# Altium schematic symbol library LogicBoard_SchLib.SchLib: 13 symbols
Pins are listed as number, name and electrical type; pins without a type are passive.

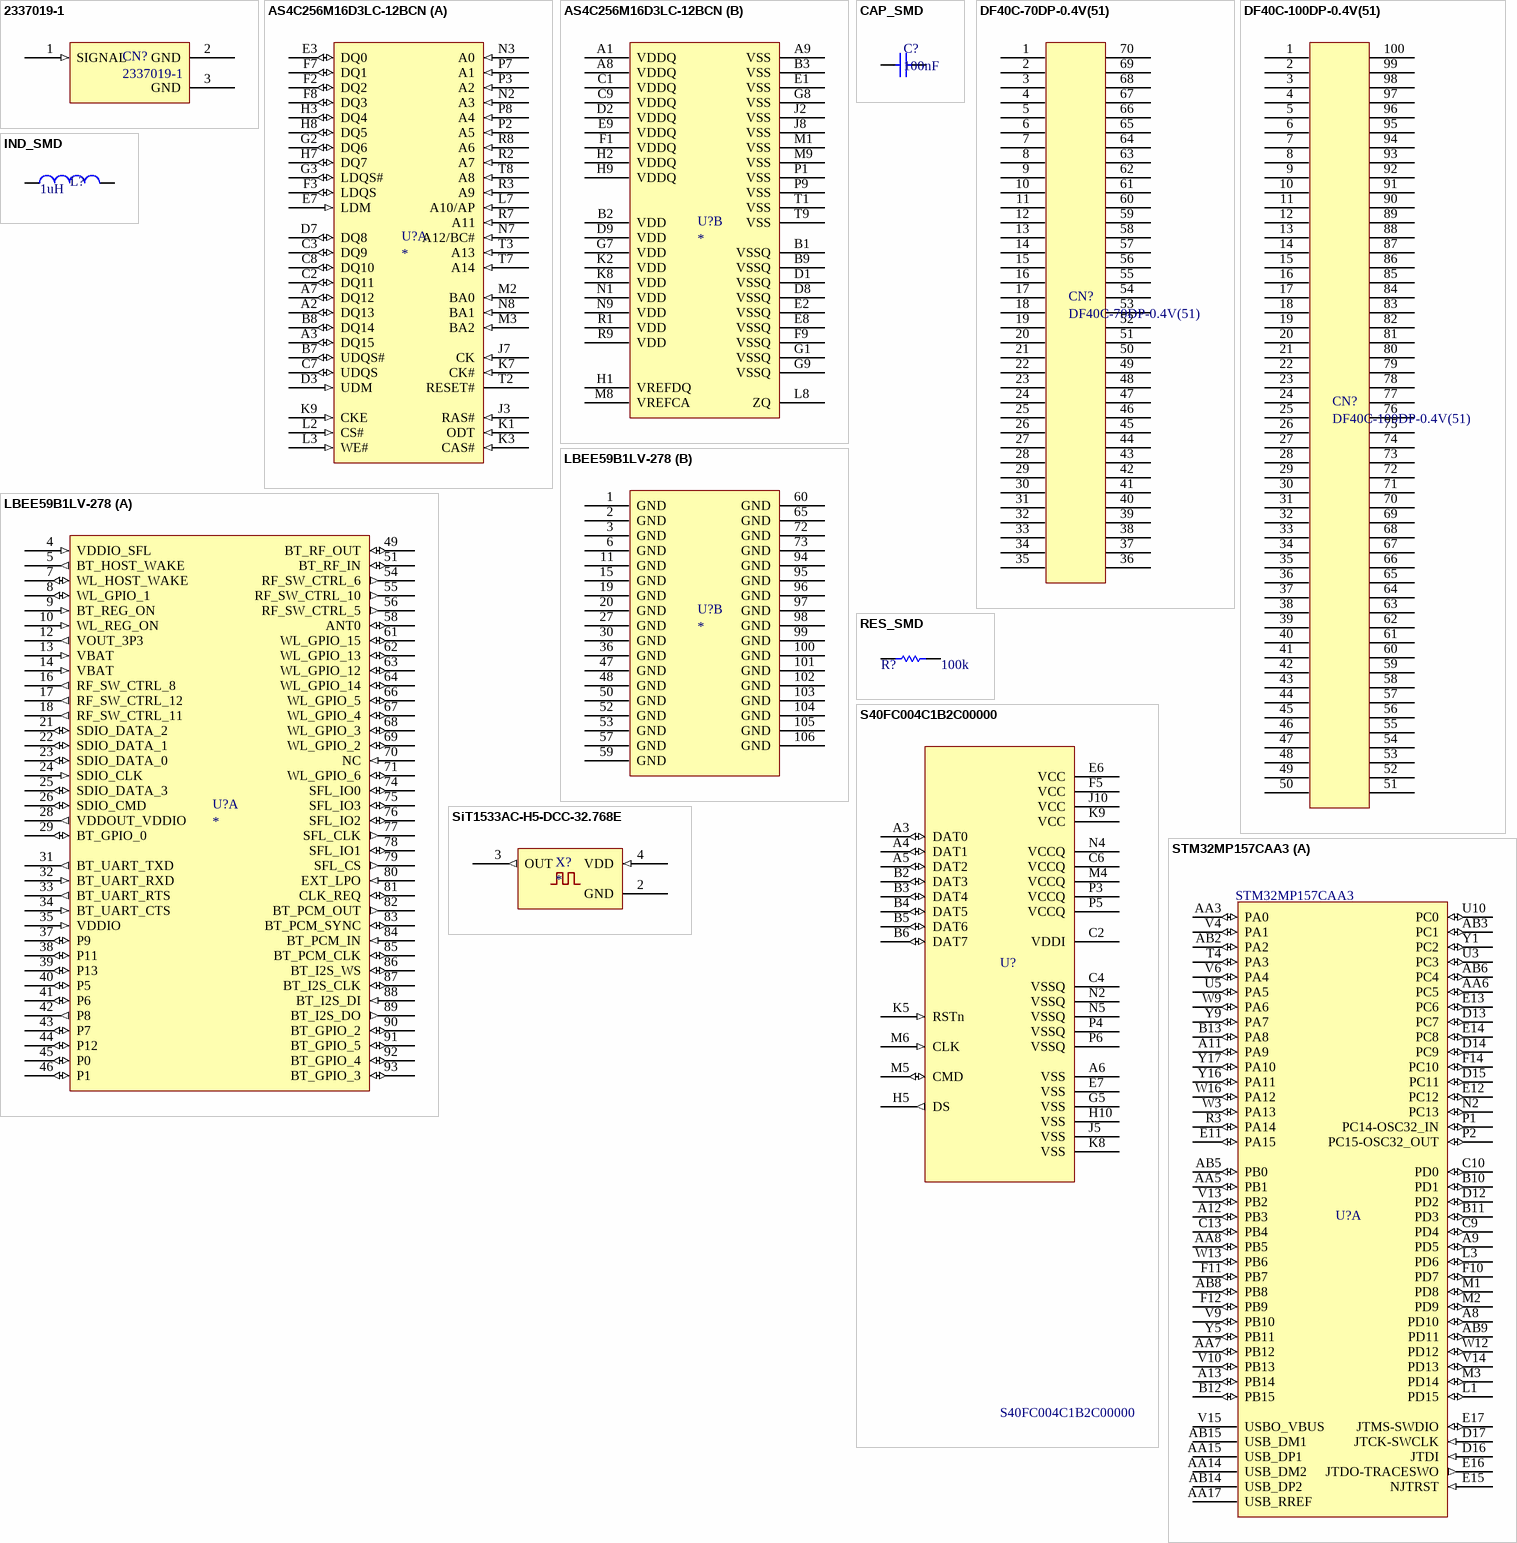
[diagram p0: symbols 2337019-1 to STM32MP157CAA3]

## 2337019-1
designator CN?
RF Connector; Coaxial Connectors MicroCoax receptacle UMCC Gen 1; Manufacturer 1: TE Connectivity; Supplier 1: Mouser; Manufacturer Part Number 1: 2337019-1; RoHS: Yes; Category: RF / Coaxial Connectors; Stock 1: 47792; Pricing 1: 1=0.19000, 10=0.13400, 50=0.13400, 100=0.11000, 1000=0.08600, 10000=0.07800 (USD); Supplier 2: Digi-Key; Supplier Part Number 1: 571-2337019-1; Supplier Part Number 2: A144746CT-ND; Datasheet: https://www.te.com/commerce/DocumentDelivery/DDEController?Action=showdoc&DocId=Customer+Drawing%7FC-2337019%7FA3%7Fpdf%7FEnglish%7FENG_CD_C-2337019_A3.pdf%7F2337019-1
pins: 1 SIGNAL (in), 2 GND (power), 3 GND (power)

## AS4C256M16D3LC-12BCN
designator U?
IC DDR3L 4Gb Memory; Manufacturer 1: Alliance Memory; Manufacturer Part Number 1: AS4C256M16D3-12BCN; Address Bus Width: 15b; Access Time: 20ns; Memory Type: RAM,DDR3 SDRAM; Frequency: 800MHz; Interface: Parallel; Operating Supply Voltage: 1.5V; Supplier 1: Mouser; RoHS: Yes; Category: Memory; Case/Package: TFBGA; Number of Pins: 96; Min Operating Temperature: 0°C; Max Operating Temperature: 95°C; Packaging: Tray; Density: 4Gb; Max Frequency: 800MHz; Lead Free: Lead Free; RoHS Compliant: Yes; ComponentLink1URL: https://datasheet.ciiva.com/48497/4gb-as4c256m16d3-48497159.pdf?src-supplier=Avnet; ComponentLink1Description: https://datasheet.ciiva.com/48497/4gb-as4c256m16d3-48497159.pdf?src-supplier=Avnet; Supplier Part Number 1: 913-A4C256M16D312BCN; Datasheet: https://www.mouser.in/datasheet/2/12/AllianceMemory_4G_DDR3L_AS4C256M16D3LC_March2020_R-1826861.pdf; Supplier 2: Digikey; Supplier Part Number 2: *
part A pins: A2 DQ13 (io), A3 DQ15 (io), A7 DQ12 (io), B7 UDQS# (io), B8 DQ14 (io), C2 DQ11 (io), C3 DQ9 (io), C7 UDQS (io), C8 DQ10 (io), D3 UDM (in), D7 DQ8 (io), E3 DQ0 (io), E7 LDM (in), F2 DQ2 (io), F3 LDQS (io), F7 DQ1 (io), F8 DQ3 (io), G2 DQ6 (io), G3 LDQS# (io), H3 DQ4 (io), H7 DQ7 (io), H8 DQ5 (io), J3 RAS# (in), J7 CK (in), K1 ODT (in), K3 CAS# (in), K7 CK# (in), K9 CKE (in), L2 CS# (in), L3 WE# (in), L7 A10/AP (in), M2 BA0 (in), M3 BA2 (in), N2 A3 (in), N3 A0 (in), N7 A12/BC# (in), N8 BA1 (in), P2 A5 (in), P3 A2 (in), P7 A1 (in), P8 A4 (in), R2 A7 (in), R3 A9 (in), R7 A11 (in), R8 A6 (in), T2 RESET#, T3 A13 (in), T7 A14 (in), T8 A8 (in)
part B pins: A1 VDDQ (power), A8 VDDQ (power), A9 VSS (power), B1 VSSQ (power), B2 VDD (power), B3 VSS (power), B9 VSSQ (power), C1 VDDQ (power), C9 VDDQ (power), D1 VSSQ (power), D2 VDDQ (power), D8 VSSQ (power), D9 VDD (power), E1 VSS (power), E2 VSSQ (power), E8 VSSQ (power), E9 VDDQ (power), F1 VDDQ (power), F9 VSSQ (power), G1 VSSQ (power), G7 VDD (power), G8 VSS (power), G9 VSSQ (power), H1 VREFDQ (power), H2 VDDQ (power), H9 VDDQ (power), J1 NC1 hidden, J2 VSS (power), J8 VSS (power), J9 NC2 hidden, K2 VDD (power), K8 VDD (power), L1 NC3 hidden, L8 ZQ (power), L9 NC4 hidden, M1 VSS (power), M7 NC5 hidden, M8 VREFCA (power), M9 VSS (power), N1 VDD (power), N9 VDD (power), P1 VSS (power), P9 VSS (power), R1 VDD (power), R9 VDD (power), T1 VSS (power), T9 VSS (power)

## CAP_SMD
designator C?, comment 100nF
Capacitor MLCC; Tolerance: 10%; Dielectric: X5R; Voltage Rating: 6.3V; Supplier 1: Mouser; Manufacturer 1: *; Manufacturer Part Number 1: *; RoHS: Yes; Mount: Surface Mount; Package: *; Capacitance: *; Length: *; Lead Free: Lead Free; Supplier Part Number 1: *; Supplier 2: Digikey; Supplier Part Number 2: *; Value: 100nF
pins: 1, 2

## DF40C-70DP-0.4V(51)
designator CN?
CONN HDR 70POS 0.4MM SMD GOLD; Manufacturer 1: Hirose; Current Rating: 300mA; Number of Positions: 70; Connector Type: Plug; Stack Height: 1.5mm; Mated Stacking Heights: 4mm; Supplier 1: Mouser; Manufacturer Part Number 1: DF40C-70DP-0.4V(51); RoHS: Yes; Category: Board to Board Connectors; Stock 1: 12206; Pricing 1: 1=1.10000, 10=1.04000, 50=1.04000, 100=0.84600, 1000=0.68100, 10000=0.61100 (USD); Mount: Surface Mount; Contact Material: Copper; Contact Plating: Gold; Number of Rows: 2; Package Quantity: 1; Packaging: Tape and Reel; Termination: SMD/SMT; Series: DF40; Pitch: 0.4mm; RoHS Compliant: Yes; Lead Free: Lead Free; ComponentLink1URL: http://www.hirose.co.jp/cataloge_hp/e68440018.pdf?src-supplier=Mouser; ComponentLink1Description: http://www.hirose.co.jp/cataloge_hp/e68440018.pdf?src-supplier=Mouser; ComponentLink2URL: http://www.hirose.co.jp/cataloge_hp/ed_DF40_20120316.pdf?src-supplier=Future+Electronics; ComponentLink2Description: http://www.hirose.co.jp/cataloge_hp/ed_DF40_20120316.pdf?src-supplier=Future+Electronics; ComponentLink3URL: https://www.hirose.com/product/en/download_file/key_name/DF40C-70DP-0.4V%2851%29/category/Specification%20Sheet/doc_file_id/46853/?file_category_id=9&item_id=06844015251&is_series=&src-supplier=Digi-Key; ComponentLink3Description: https://www.hirose.com/product/en/download_file/key_name/DF40C-70DP-0.4V%2851%29/category/Specification%20Sheet/doc_file_id/46853/?file_category_id=9&item_id=06844015251&is_series=&src-supplier=Digi-Key; Supplier 2: Digi-Key; Supplier Part Number 1: 798-DF40C70DP04V51; Supplier Part Number 2: H11630CT-ND; Datasheet: https://www.mouser.in/datasheet/2/185/DF40_CL0595_9327_0_00_2d-1613490.pdf
pins: 1, 2, 3, 4, 5, 6, 7, 8, 9, 10, 11, 12, 13, 14, 15, 16, 17, 18, 19, 20, 21, 22, 23, 24, 25, 26, 27, 28, 29, 30, 31, 32, 33, 34, 35, 36, 37, 38, 39, 40, 41, 42, 43, 44, 45, 46, 47, 48, 49, 50, 51, 52, 53, 54, 55, 56, 57, 58, 59, 60, 61, 62, 63, 64, 65, 66, 67, 68, 69, 70

## DF40C-100DP-0.4V(51)
designator CN?
HIROSE(HRS) - DF40C-100DP-0.4V(51) - Stacking Board Connector, DF40 Series, Header, 0.4 mm, 100, Surface Mount, Gold Plated Contacts RoHS Compliant: Yes; Number of Contacts: 100; Voltage Rating: 30V; Current Rating: 300mA; Contact Resistance: 90mR; Connector Type: Plug; Gender: Male; Pitch: 0.4mm; Stack Height: 1.5mm; Mated Stacking Heights: 4mm; Supplier 1: Mouser; Manufacturer 1: Hirose; Manufacturer Part Number 1: DF40C-100DP-0.4V(51); RoHS: Yes; Category: Headers and Wire Housings; Pricing 1: 1=1.59000, 10=1.33000, 50=1.33000, 100=1.24000, 1000=0.88500, 10000=0.76700 (USD); Mount: Surface Mount; Contact Plating: Gold; Contact Material: Bronze; Housing Color: Black; Housing Material: Polymer; Min Operating Temperature: -35°C; Max Operating Temperature: 85°C; Number of Rows: 2; Termination: SMD/SMT; Package Quantity: 1; Packaging: Tape and Reel; Max Current Rating: 300mA; Number of Positions: 100; Max Voltage Rating (AC): 30V; Orientation: Straight; Series: DF40; Length: 21.52mm; Depth: 1.85mm; Radiation Hardening: No; REACH SVHC: Unknown; Lead Free: Lead Free; RoHS Compliant: Yes; ComponentLink1URL: https://datasheet.ciiva.com/26948/getdatasheetpartid-434445-26948932.pdf?src-supplier=Verical; ComponentLink1Description: https://datasheet.ciiva.com/26948/getdatasheetpartid-434445-26948932.pdf?src-supplier=Verical; ComponentLink2URL: https://datasheet.ciiva.com/46408/1824826-46408893.pdf?src-supplier=Element14; ComponentLink2Description: https://datasheet.ciiva.com/46408/1824826-46408893.pdf?src-supplier=Element14; Supplier 2: Digi-Key; Supplier Part Number 2: H11614CT-ND; Supplier Part Number 1: 798-DF40C100DP0.4V51; Datasheet: https://www.mouser.in/datasheet/2/185/DF40_CL0684_4032_1_51_2d-1613464.pdf
pins: 1, 2, 3, 4, 5, 6, 7, 8, 9, 10, 11, 12, 13, 14, 15, 16, 17, 18, 19, 20, 21, 22, 23, 24, 25, 26, 27, 28, 29, 30, 31, 32, 33, 34, 35, 36, 37, 38, 39, 40, 41, 42, 43, 44, 45, 46, 47, 48, 49, 50, 51, 52, 53, 54, 55, 56, 57, 58, 59, 60, 61, 62, 63, 64, 65, 66, 67, 68, 69, 70, 71, 72, 73, 74, 75, 76, 77, 78, 79, 80, 81, 82, 83, 84, 85, 86, 87, 88, 89, 90, 91, 92, 93, 94, 95, 96, 97, 98, 99, 100

## IND_SMD
designator L?, comment 1uH
Inductor SMD; Manufacturer Part Number 1: MGV2520101R5M-10; Supplier 1: Mouser; RoHS: Yes; Category: Fixed Inductors; RoHS Compliant: Yes; Supplier 2: Digi-Key; Supplier Part Number 1: 739-MGV2520101R5M-10; Supplier Part Number 2: 240-3070-1-ND; Value: 1uH
pins: 1, 2

## LBEE59B1LV-278
designator U?
Module Wi-Fi 11a/b/g/n + Bluetooth 5.0, 3.2V to 4.4V 106-Pin LGA T/R; Manufacturer 1: Murata; Manufacturer Part Number 1: LBEE59B1LV-278; Supplier 1: Mouser; RoHS: No; Category: RF Receivers, Transceivers; Supplier 2: Digi-Key; Datasheet: https://wireless.murata.com/pub/RFM/data/type1lv.pdf; Supplier Part Number 2: 490-18384-1-ND; Supplier Part Number 1: 81-LBEE59B1LV-278
part A pins: 4 VDDIO_SFL (in), 5 BT_HOST_WAKE (out), 7 WL_HOST_WAKE (io), 8 WL_GPIO_1 (io), 9 BT_REG_ON (in), 10 WL_REG_ON (in), 12 VOUT_3P3 (out), 13 VBAT (in), 14 VBAT (in), 16 RF_SW_CTRL_8 (out), 17 RF_SW_CTRL_12 (out), 18 RF_SW_CTRL_11 (out), 21 SDIO_DATA_2 (io), 22 SDIO_DATA_1 (io), 23 SDIO_DATA_0 (io), 24 SDIO_CLK (in), 25 SDIO_DATA_3 (io), 26 SDIO_CMD (io), 28 VDDOUT_VDDIO (out), 29 BT_GPIO_0 (io), 31 BT_UART_TXD (out), 32 BT_UART_RXD (in), 33 BT_UART_RTS (out), 34 BT_UART_CTS (in), 35 VDDIO (in), 37 P9 (io), 38 P11 (io), 39 P13 (io), 40 P5 (io), 41 P6 (io), 42 P8 (out), 43 P7 (io), 44 P12 (io), 45 P0 (io), 46 P1 (io), 49 BT_RF_OUT (io), 51 BT_RF_IN (io), 54 RF_SW_CTRL_6 (out), 55 RF_SW_CTRL_10 (out), 56 RF_SW_CTRL_5 (out), 58 ANT0 (io), 61 WL_GPIO_15 (io), 62 WL_GPIO_13 (io), 63 WL_GPIO_12 (io), 64 WL_GPIO_14 (io), 66 WL_GPIO_5 (io), 67 WL_GPIO_4 (io), 68 WL_GPIO_3 (io), 69 WL_GPIO_2 (io), 70 NC (in), 71 WL_GPIO_6 (io), 74 SFL_IO0 (io), 75 SFL_IO3 (io), 76 SFL_IO2 (io), 77 SFL_CLK (out), 78 SFL_IO1 (io), 79 SFL_CS (out), 80 EXT_LPO (in), 81 CLK_REQ (io), 82 BT_PCM_OUT (out), 83 BT_PCM_SYNC (io), 84 BT_PCM_IN (in), 85 BT_PCM_CLK (io), 86 BT_I2S_WS (io), 87 BT_I2S_CLK (io), 88 BT_I2S_DI (in), 89 BT_I2S_DO (out), 90 BT_GPIO_2 (io), 91 BT_GPIO_5 (io), 92 BT_GPIO_4 (io), 93 BT_GPIO_3 (io)
part B pins: 1 GND (power), 2 GND (power), 3 GND (power), 6 GND (power), 11 GND (power), 15 GND (power), 19 GND (power), 20 GND (power), 27 GND (power), 30 GND (power), 36 GND (power), 47 GND (power), 48 GND (power), 50 GND (power), 52 GND (power), 53 GND (power), 57 GND (power), 59 GND (power), 60 GND (power), 65 GND (power), 72 GND (power), 73 GND (power), 94 GND (power), 95 GND (power), 96 GND (power), 97 GND (power), 98 GND (power), 99 GND (power), 100 GND (power), 101 GND (power), 102 GND (power), 103 GND (power), 104 GND (power), 105 GND (power), 106 GND (power)

## RES_SMD
designator R?, comment 100k
General Purpose Chip Resistor Thick Film; Supplier 1: Mouser; RoHS: Yes; Category: Resistors; RoHS Compliant: Yes; Resistance: *; Supplier 2: Digikey; Supplier Part Number 2: *; Package: *; Value: 100k
pins: 1, 2

## S40FC004C1B2C00000
designator U?
IC eMMC 4GB, 3.3V Flash; Manufacturer 1: SKYHIGH MEMORY; Supplier 1: Mouser; Manufacturer Part Number 1: S40FC004C1B2C00000; RoHS: No; Pricing 1: 1=7.44000, 10=6.82000, 50=5.91000, 100=5.58000, 1000=4.19000, 10000=4.19000 (USD); Datasheet: http://www.skyhighmemory.com/download/dataSheet/002-01112.pdf; Supplier Part Number 1: 727-S40FC004C1B2C000; Supplier 2: Digikey; Supplier Part Number 2: *
pins: A1 NC hidden, A2 NC hidden, A3 DAT0 (io), A4 DAT1 (io), A5 DAT2 (io), A6 VSS (power), A7 RFU hidden, A8 NC hidden, A9 NC hidden, A10 NC hidden, A11 NC hidden, A12 NC hidden, A13 NC hidden, A14 NC hidden, B1 NC hidden, B2 DAT3 (io), B3 DAT4 (io), B4 DAT5 (io), B5 DAT6 (io), B6 DAT7 (io), B7 NC hidden, B8 NC hidden, B9 NC hidden, B10 NC hidden, B11 NC hidden, B12 NC hidden, B13 NC hidden, B14 NC hidden, C1 NC hidden, C2 VDDI (power), C3 NC hidden, C4 VSSQ (power), C5 NC hidden, C6 VCCQ (power), C7 NC hidden, C8 NC hidden, C9 NC hidden, C10 NC hidden, C11 NC hidden, C12 NC hidden, C13 NC hidden, C14 NC hidden, D1 NC hidden, D2 NC hidden, D3 NC hidden, D4 NC hidden, D12 NC hidden, D13 NC hidden, D14 NC hidden, E1 NC hidden, E2 NC hidden, E3 NC hidden, E5 RFU hidden, E6 VCC (power), E7 VSS (power), E8 RFU hidden, E9 RFU hidden, E10 RFU hidden, E12 NC hidden, E13 NC hidden, E14 NC hidden, F1 NC hidden, F2 NC hidden, F3 NC hidden, F5 VCC (power), F10 RFU hidden, F12 NC hidden, F13 NC hidden, F14 NC hidden, G1 NC hidden, G2 NC hidden, G3 RFU hidden, G5 VSS (power), G10 RFU hidden, G12 NC hidden, G13 NC hidden, G14 NC hidden, H1 NC hidden, H2 NC hidden, H3 NC hidden, H5 DS (out), H10 VSS (power), H12 NC hidden, H13 NC hidden, H14 NC hidden, J1 NC hidden, J2 NC hidden, J3 NC hidden, J5 VSS (power), J10 VCC (power), J12 NC hidden, J13 NC hidden, J14 NC hidden, K1 NC hidden, K2 NC hidden, K3 NC hidden, K5 RSTn (in), K6 RFU hidden, K7 RFU hidden, K8 VSS (power), K9 VCC (power), K10 RFU hidden, K12 NC hidden, K13 NC hidden, K14 NC hidden, L1 NC hidden, L2 NC hidden, L3 NC hidden, L12 NC hidden, L13 NC hidden, L14 NC hidden, M1 NC hidden, M2 NC hidden, M3 NC hidden, M4 VCCQ (power), M5 CMD (io), M6 CLK (in), M7 NC hidden, M8 NC hidden, M9 NC hidden, M10 NC hidden, M11 NC hidden, M12 NC hidden, M13 NC hidden, M14 NC hidden, N1 NC hidden, N2 VSSQ (power), N3 NC hidden, N4 VCCQ (power), N5 VSSQ (power), N6 NC hidden, N7 NC hidden, N8 NC hidden, N9 NC hidden, N10 NC hidden, N11 NC hidden, N12 NC hidden, N13 NC hidden, N14 NC hidden, P1 NC hidden, P2 NC hidden, P3 VCCQ (power), P4 VSSQ (power), P5 VCCQ (power), P6 VSSQ (power), P7 RFU hidden, P8 NC hidden, P9 NC hidden, P10 RFU hidden, P11 NC hidden, P12 NC hidden, P13 NC hidden, P14 NC hidden

## SiT1533AC-H5-DCC-32.768E
designator X?
Oscillator MEMS 0.032768MHz ±75ppm (Stability) 15pF LVCMOS 52% 1.8V/2.5V/3.3V 4-Pin SMD T/R; Manufacturer 1: SiTime; Manufacturer Part Number 1: SIT1533AC-H5-DCC-32.768E; Frequency: 32.768kHz; Max Supply Current: 1.3uA; Supplier 1: Mouser; RoHS: Yes; Category: Oscillators; Pricing 1: 1=1.13000, 10=1.00000, 50=1.00000, 100=0.82700, 1000=0.59400, 10000=0.59400 (USD); Mount: Surface Mount; Case/Package: SMD/SMT; Number of Pins: 4; Min Operating Temperature: -10°C; Max Operating Temperature: 70°C; Packaging: Tape and Reel; Frequency Stability: 75ppm; Length: 0.079inch; Width: 0.047inch; Height: 0.024inch; RoHS Compliant: Yes; ComponentLink1URL: http://components.arrow.com/part/dataview/0323_07503286?src-supplier=Arrow+Europe; ComponentLink1Description: http://components.arrow.com/part/dataview/0323_07503286?src-supplier=Arrow+Europe; ComponentLink2URL: http://www.sitime.com/products/datasheets/sit1533/SiT1533-datasheet.pdf?src-supplier=Digi-Key; ComponentLink2Description: http://www.sitime.com/products/datasheets/sit1533/SiT1533-datasheet.pdf?src-supplier=Digi-Key; ComponentLink3URL: https://www.sitime.com/datasheet/SiT1533?src-supplier=Digi-Key; ComponentLink3Description: https://www.sitime.com/datasheet/SiT1533?src-supplier=Digi-Key; Supplier 2: Digi-Key; Pricing 2: 1=1.05000, 10=0.92900, 50=0.86860, 100=0.76760, 500=0.72720 (USD); Supplier Part Number 1: 788-1533ACH5DCC32.7E; Supplier Part Number 2: 1473-1516-1-ND; Datasheet: https://www.mouser.in/datasheet/2/371/SiT1533_rev1.4_03202018-1324419.pdf
pins: 1 NC hidden, 2 GND (power), 3 OUT (out), 4 VDD (in)

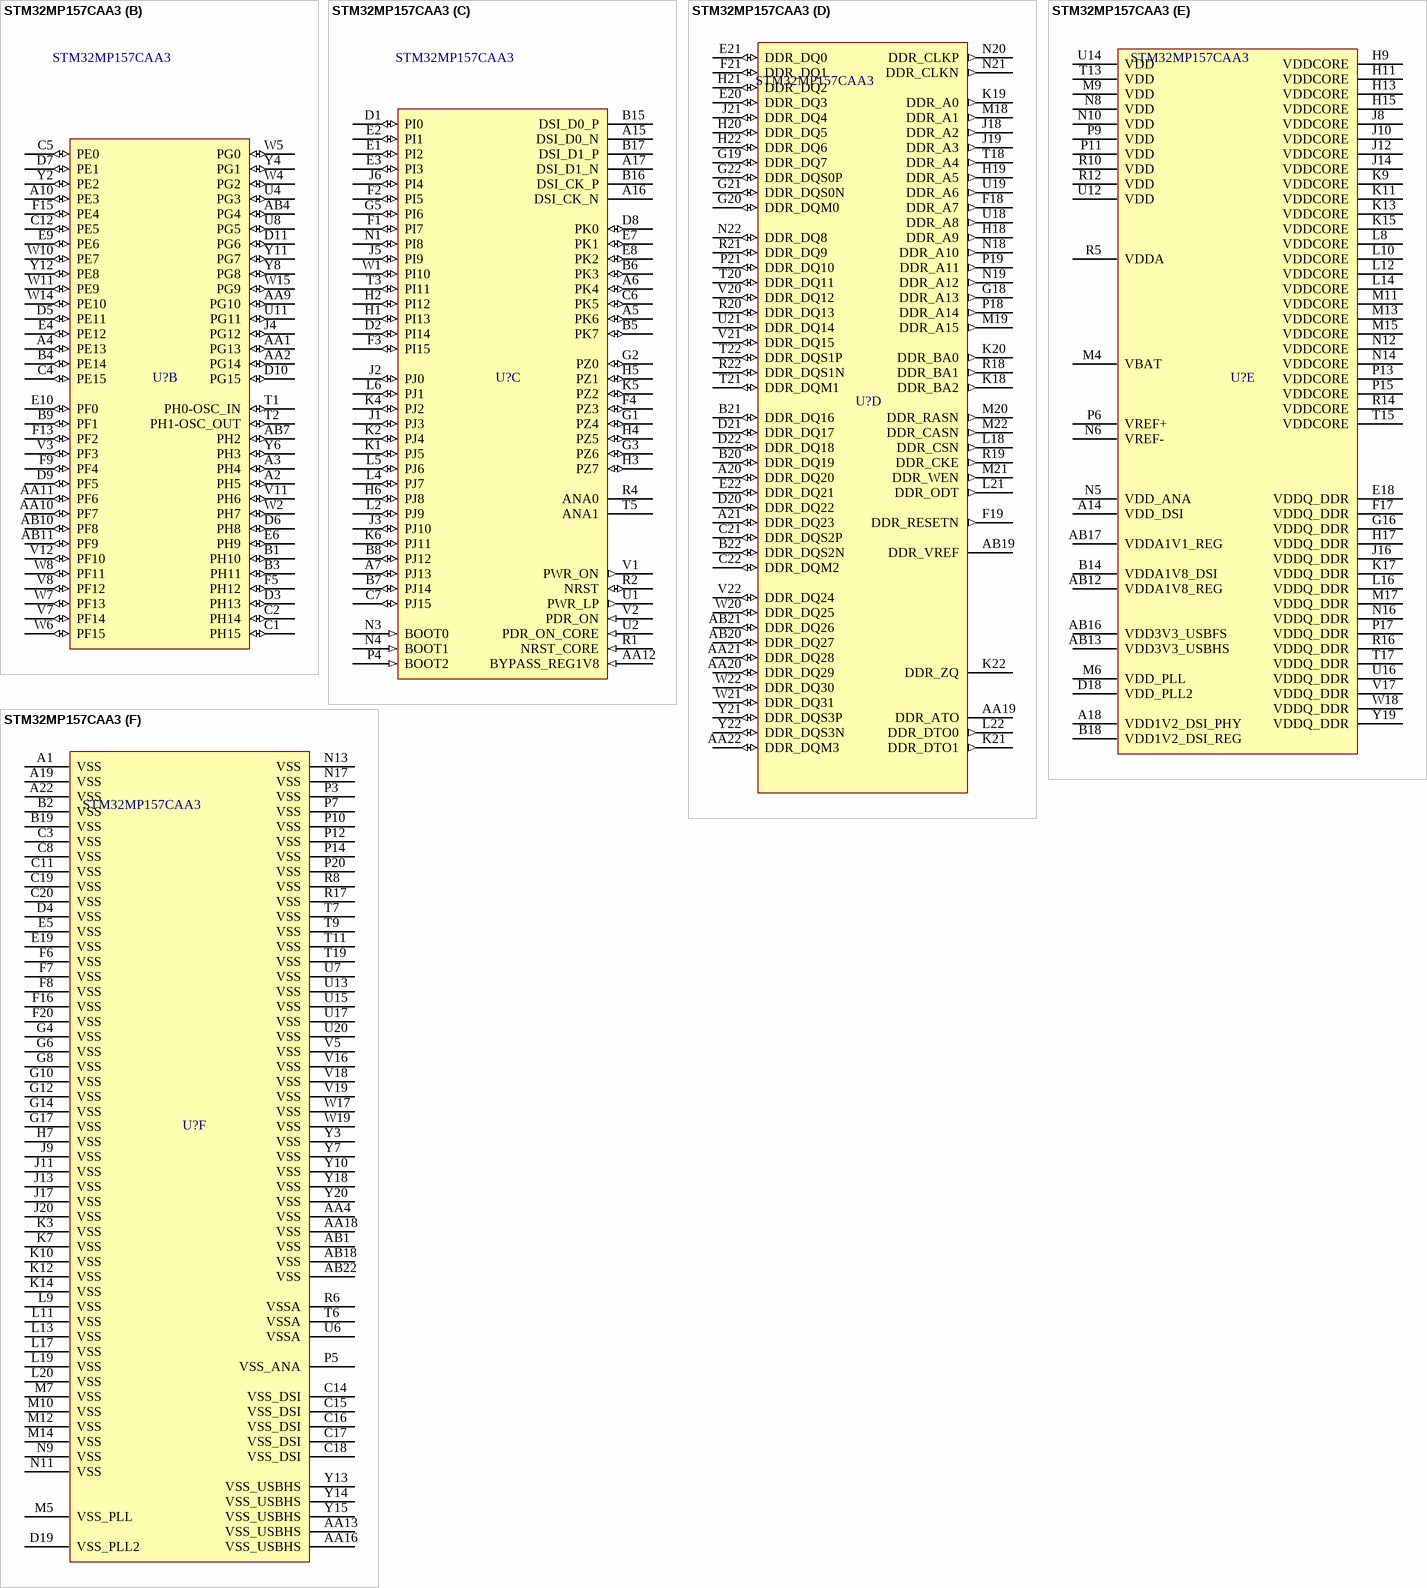
[diagram p1: symbol STM32MP157CAA3]

## STM32MP157CAA3
designator U?  Manufacturer Part Number 1: STM32MP157CAA3  (hidden comment: *)
IC MPU with Arm Dual Cortex-A7 650 MHz, Arm Cortex-M4; Manufacturer 1: STMicroelectronics; Supplier 1: Mouser; RoHS: Yes; Category: Microprocessors; Supplier Part Number 1: 511-STM32MP157CAA3; Supplier 2: Digi-Key; Supplier Part Number 2: STM32MP157CAA3-ND; Datasheet: https://www.st.com/resource/en/datasheet/stm32mp157c.pdf
part A pins: A8 PD10 (io), A9 PD5 (io), A11 PA9 (io), A12 PB3 (io), A13 PB14 (io), AA3 PA0 (io), AA5 PB1 (io), AA6 PC5 (io), AA7 PB12 (io), AA8 PB5 (io), AA14 USB_DM2, AA15 USB_DP1, AA17 USB_RREF, AB2 PA2 (io), AB3 PC1 (io), AB5 PB0 (io), AB6 PC4 (io), AB8 PB8 (io), AB9 PD11 (io), AB14 USB_DP2, AB15 USB_DM1, B10 PD1 (io), B11 PD3 (io), B12 PB15 (io), B13 PA8 (io), C9 PD4 (io), C10 PD0 (io), C13 PB4 (io), D12 PD2 (io), D13 PC7 (io), D14 PC9 (io), D15 PC11 (io), D16 JTDI (in), D17 JTCK-SWCLK (in), E11 PA15 (io), E12 PC12 (io), E13 PC6 (io), E14 PC8 (io), E15 NJTRST (in), E16 JTDO-TRACESWO (out), E17 JTMS-SWDIO (io), F10 PD7 (io), F11 PB7 (io), F12 PB9 (io), F14 PC10 (io), L1 PD15 (io), L3 PD6 (io), M1 PD8 (io), M2 PD9 (io), M3 PD14 (io), N2 PC13 (io), P1 PC14-OSC32_IN (io), P2 PC15-OSC32_OUT (io), R3 PA14 (io), T4 PA3 (io), U3 PC3 (io), U5 PA5 (io), U10 PC0 (io), V4 PA1 (io), V6 PA4 (io), V9 PB10 (io), V10 PB13 (io), V13 PB2 (io), V14 PD13 (io), V15 USBO_VBUS, W3 PA13 (io), W9 PA6 (io), W12 PD12 (io), W13 PB6 (io), W16 PA12 (io), Y1 PC2 (io), Y5 PB11 (io), Y9 PA7 (io), Y16 PA11 (io), Y17 PA10 (io)
part B pins: A2 PH5 (io), A3 PH4 (io), A4 PE13 (io), A10 PE3 (io), AA1 PG13 (io), AA2 PG14 (io), AA9 PG10 (io), AA10 PF7 (io), AA11 PF6 (io), AB4 PG4 (io), AB7 PH2 (io), AB10 PF8 (io), AB11 PF9 (io), B1 PH10 (io), B3 PH11 (io), B4 PE14 (io), B9 PF1 (io), C1 PH15 (io), C2 PH14 (io), C4 PE15 (io), C5 PE0 (io), C12 PE5 (io), D3 PH13 (io), D5 PE11 (io), D6 PH8 (io), D7 PE1 (io), D9 PF5 (io), D10 PG15 (io), D11 PG6 (io), E4 PE12 (io), E6 PH9 (io), E9 PE6 (io), E10 PF0 (io), F5 PH12 (io), F9 PF4 (io), F13 PF2 (io), F15 PE4 (io), J4 PG12 (io), T1 PH0-OSC_IN (io), T2 PH1-OSC_OUT (io), U4 PG3 (io), U8 PG5 (io), U11 PG11 (io), V3 PF3 (io), V7 PF14 (io), V8 PF12 (io), V11 PH6 (io), V12 PF10 (io), W2 PH7 (io), W4 PG2 (io), W5 PG0 (io), W6 PF15 (io), W7 PF13 (io), W8 PF11 (io), W10 PE7 (io), W11 PE9 (io), W14 PE10 (io), W15 PG9 (io), Y2 PE2 (io), Y4 PG1 (io), Y6 PH3 (io), Y8 PG8 (io), Y11 PG7 (io), Y12 PE8 (io)
part C pins: A5 PK6 (io), A6 PK4 (io), A7 PJ13 (io), A15 DSI_D0_N, A16 DSI_CK_N, A17 DSI_D1_N, AA12 BYPASS_REG1V8 (in), B5 PK7 (io), B6 PK3 (io), B7 PJ14 (io), B8 PJ12 (io), B15 DSI_D0_P, B16 DSI_CK_P, B17 DSI_D1_P, C6 PK5 (io), C7 PJ15 (io), D1 PI0 (io), D2 PI14 (io), D8 PK0 (io), E1 PI2 (io), E2 PI1 (io), E3 PI3 (io), E7 PK1 (io), E8 PK2 (io), F1 PI7 (io), F2 PI5 (io), F3 PI15 (io), F4 PZ3 (io), G1 PZ4 (io), G2 PZ0 (io), G3 PZ6 (io), G5 PI6 (io), H1 PI13 (io), H2 PI12 (io), H3 PZ7 (io), H4 PZ5 (io), H5 PZ1 (io), H6 PJ8 (io), J1 PJ3 (io), J2 PJ0 (io), J3 PJ10 (io), J5 PI9 (io), J6 PI4 (io), K1 PJ5 (io), K2 PJ4 (io), K4 PJ2 (io), K5 PZ2 (io), K6 PJ11 (io), L2 PJ9 (io), L4 PJ7 (io), L5 PJ6 (io), L6 PJ1 (io), N1 PI8 (io), N3 BOOT0 (in), N4 BOOT1 (in), P4 BOOT2 (in), R1 NRST_CORE (in), R2 NRST (io), R4 ANA0, T3 PI11 (io), T5 ANA1, U1 PWR_LP (out), U2 PDR_ON_CORE (in), V1 PWR_ON (out), V2 PDR_ON (in), W1 PI10 (io)
part D pins: A20 DDR_DQ20 (io), A21 DDR_DQ23 (io), AA19 DDR_ATO, AA20 DDR_DQ29 (io), AA21 DDR_DQ28 (io), AA22 DDR_DQM3 (io), AB19 DDR_VREF, AB20 DDR_DQ27 (io), AB21 DDR_DQ26 (io), B20 DDR_DQ19 (io), B21 DDR_DQ16 (io), B22 DDR_DQS2N (io), C21 DDR_DQS2P (io), C22 DDR_DQM2 (io), D20 DDR_DQ22 (io), D21 DDR_DQ17 (io), D22 DDR_DQ18 (io), E20 DDR_DQ3 (io), E21 DDR_DQ0 (io), E22 DDR_DQ21 (io), F18 DDR_A7 (out), F19 DDR_RESETN (out), F21 DDR_DQ1 (io), G18 DDR_A13 (out), G19 DDR_DQ7 (io), G20 DDR_DQM0 (io), G21 DDR_DQS0N (io), G22 DDR_DQS0P (io), H18 DDR_A9 (out), H19 DDR_A5 (out), H20 DDR_DQ5 (io), H21 DDR_DQ2 (io), H22 DDR_DQ6 (io), J18 DDR_A2 (out), J19 DDR_A3 (out), J21 DDR_DQ4 (io), K18 DDR_BA2 (out), K19 DDR_A0 (out), K20 DDR_BA0 (out), K21 DDR_DTO1 (out), K22 DDR_ZQ, L18 DDR_CSN (out), L21 DDR_ODT (out), L22 DDR_DTO0 (out), M18 DDR_A1 (out), M19 DDR_A15 (out), M20 DDR_RASN (out), M21 DDR_WEN (out), M22 DDR_CASN (out), N18 DDR_A10 (out), N19 DDR_A12 (out), N20 DDR_CLKP (out), N21 DDR_CLKN (out), N22 DDR_DQ8 (io), P18 DDR_A14 (out), P19 DDR_A11 (out), P21 DDR_DQ10 (io), R18 DDR_BA1 (out), R19 DDR_CKE (out), R20 DDR_DQ13 (io), R21 DDR_DQ9 (io), R22 DDR_DQS1N (io), T18 DDR_A4 (out), T20 DDR_DQ11 (io), T21 DDR_DQM1 (io), T22 DDR_DQS1P (io), U18 DDR_A8 (out), U19 DDR_A6 (out), U21 DDR_DQ14 (io), V20 DDR_DQ12 (io), V21 DDR_DQ15 (io), V22 DDR_DQ24 (io), W20 DDR_DQ25 (io), W21 DDR_DQ31 (io), W22 DDR_DQ30 (io), Y21 DDR_DQS3P (io), Y22 DDR_DQS3N (io)
part E pins: A14 VDD_DSI (power), A18 VDD1V2_DSI_PHY (power), AB12 VDDA1V8_REG (power), AB13 VDD3V3_USBHS (power), AB16 VDD3V3_USBFS (power), AB17 VDDA1V1_REG (power), B14 VDDA1V8_DSI (power), B18 VDD1V2_DSI_REG (power), D18 VDD_PLL2 (power), E18 VDDQ_DDR (power), F17 VDDQ_DDR (power), G16 VDDQ_DDR (power), H9 VDDCORE (power), H11 VDDCORE (power), H13 VDDCORE (power), H15 VDDCORE (power), H17 VDDQ_DDR (power), J8 VDDCORE (power), J10 VDDCORE (power), J12 VDDCORE (power), J14 VDDCORE (power), J16 VDDQ_DDR (power), K9 VDDCORE (power), K11 VDDCORE (power), K13 VDDCORE (power), K15 VDDCORE (power), K17 VDDQ_DDR (power), L8 VDDCORE (power), L10 VDDCORE (power), L12 VDDCORE (power), L14 VDDCORE (power), L16 VDDQ_DDR (power), M4 VBAT (power), M6 VDD_PLL (power), M9 VDD (power), M11 VDDCORE (power), M13 VDDCORE (power), M15 VDDCORE (power), M17 VDDQ_DDR (power), N5 VDD_ANA (power), N6 VREF- (power), N8 VDD (power), N10 VDD (power), N12 VDDCORE (power), N14 VDDCORE (power), N16 VDDQ_DDR (power), P6 VREF+ (power), P9 VDD (power), P11 VDD (power), P13 VDDCORE (power), P15 VDDCORE (power), P17 VDDQ_DDR (power), R5 VDDA (power), R10 VDD (power), R12 VDD (power), R14 VDDCORE (power), R16 VDDQ_DDR (power), T13 VDD (power), T15 VDDCORE (power), T17 VDDQ_DDR (power), U12 VDD (power), U14 VDD (power), U16 VDDQ_DDR (power), V17 VDDQ_DDR (power), W18 VDDQ_DDR (power), Y19 VDDQ_DDR (power)
part F pins: A1 VSS (power), A19 VSS (power), A22 VSS (power), AA4 VSS (power), AA13 VSS_USBHS (power), AA16 VSS_USBHS (power), AA18 VSS (power), AB1 VSS (power), AB18 VSS (power), AB22 VSS (power), B2 VSS (power), B19 VSS (power), C3 VSS (power), C8 VSS (power), C11 VSS (power), C14 VSS_DSI (power), C15 VSS_DSI (power), C16 VSS_DSI (power), C17 VSS_DSI (power), C18 VSS_DSI (power), C19 VSS (power), C20 VSS (power), D4 VSS (power), D19 VSS_PLL2 (power), E5 VSS (power), E19 VSS (power), F6 VSS (power), F7 VSS (power), F8 VSS (power), F16 VSS (power), F20 VSS (power), G4 VSS (power), G6 VSS (power), G8 VSS (power), G10 VSS (power), G12 VSS (power), G14 VSS (power), G17 VSS (power), H7 VSS (power), J9 VSS (power), J11 VSS (power), J13 VSS (power), J17 VSS (power), J20 VSS (power), K3 VSS (power), K7 VSS (power), K10 VSS (power), K12 VSS (power), K14 VSS (power), L9 VSS (power), L11 VSS (power), L13 VSS (power), L17 VSS (power), L19 VSS (power), L20 VSS (power), M5 VSS_PLL (power), M7 VSS (power), M10 VSS (power), M12 VSS (power), M14 VSS (power), N9 VSS (power), N11 VSS (power), N13 VSS (power), N17 VSS (power), P3 VSS (power), P5 VSS_ANA (power), P7 VSS (power), P10 VSS (power), P12 VSS (power), P14 VSS (power), P20 VSS (power), R6 VSSA (power), R8 VSS (power), R17 VSS (power), T6 VSSA (power), T7 VSS (power), T9 VSS (power), T11 VSS (power), T19 VSS (power), U6 VSSA (power), U7 VSS (power), U13 VSS (power), U15 VSS (power), U17 VSS (power), U20 VSS (power), V5 VSS (power), V16 VSS (power), V18 VSS (power), V19 VSS (power), W17 VSS (power), W19 VSS (power), Y3 VSS (power), Y7 VSS, Y10 VSS (power), Y13 VSS_USBHS (power), Y14 VSS_USBHS (power), Y15 VSS_USBHS (power), Y18 VSS (power), Y20 VSS (power)

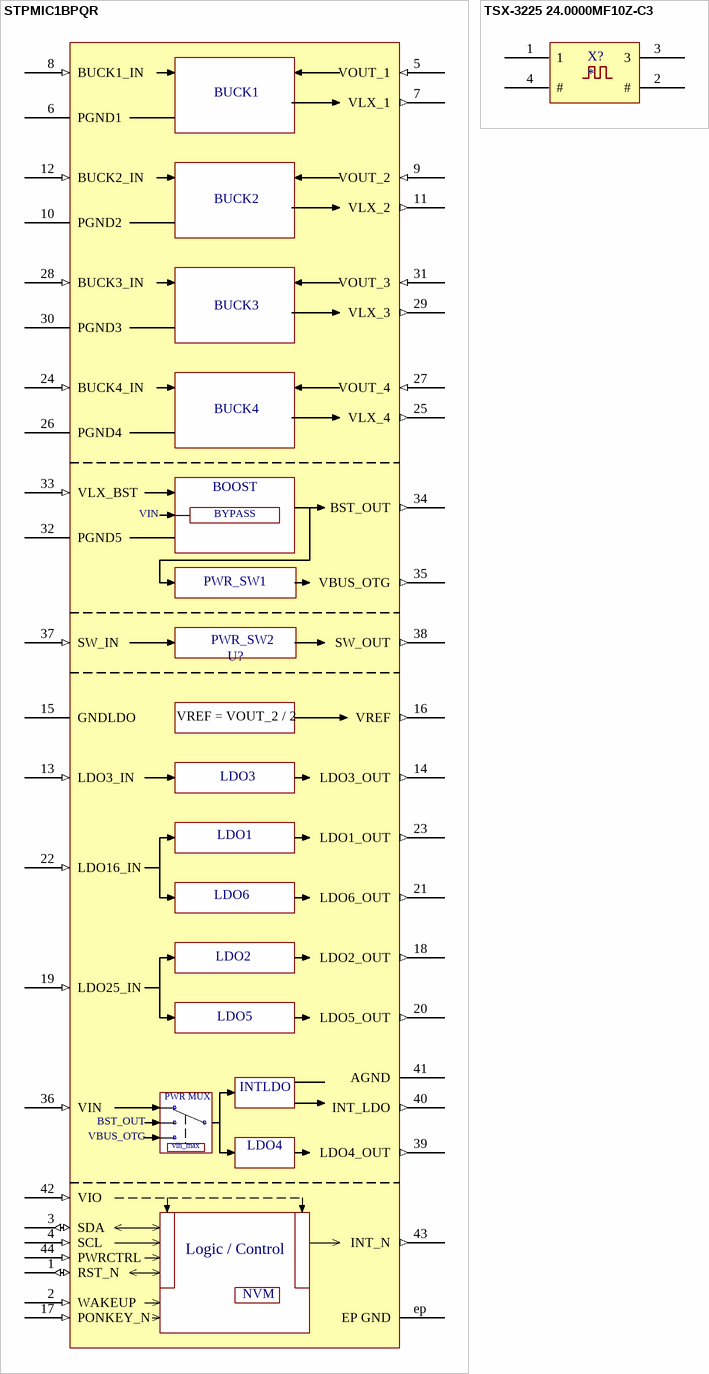
[diagram p2: symbols STPMIC1BPQR to TSX-3225 24.0000MF10Z-C3]

## STPMIC1BPQR
designator U?  (value not drawn)
IC ST MPU Power Management IC; Manufacturer 1: STMicroelectronics; Manufacturer Part Number 1: STPMIC1BPQR; Supplier 1: Mouser; RoHS: Yes; Category: Power Management ICs; Supplier 2: Digi-Key; Datasheet: https://www.st.com/resource/en/datasheet/stpmic1.pdf; Supplier Part Number 1: 511-STPMIC1BPQR; Supplier Part Number 2: 497-STPMIC1BPQRDKR-ND
pins: 1 RST_N (io), 2 WAKEUP (in), 3 SDA (io), 4 SCL (in), 5 VOUT_1 (in), 6 PGND1 (power), 7 VLX_1 (out), 8 BUCK1_IN (in), 9 VOUT_2 (in), 10 PGND2 (power), 11 VLX_2 (out), 12 BUCK2_IN (in), 13 LDO3_IN (in), 14 LDO3_OUT (out), 15 GNDLDO (power), 16 VREF (out), 17 PONKEY_N (in), 18 LDO2_OUT (out), 19 LDO25_IN (in), 20 LDO5_OUT (out), 21 LDO6_OUT (out), 22 LDO16_IN (in), 23 LDO1_OUT (out), 24 BUCK4_IN (in), 25 VLX_4 (out), 26 PGND4 (power), 27 VOUT_4 (in), 28 BUCK3_IN (in), 29 VLX_3 (out), 30 PGND3 (power), 31 VOUT_3 (in), 32 PGND5 (power), 33 VLX_BST (in), 34 BST_OUT (out), 35 VBUS_OTG (out), 36 VIN (in), 37 SW_IN (in), 38 SW_OUT (out), 39 LDO4_OUT (out), 40 INT_LDO (out), 41 AGND (power), 42 VIO (in), 43 INT_N (out), 44 PWRCTRL (in), ep EP GND (power)
text: BUCK1; BUCK2; BUCK3; BUCK4; BOOST; BYPASS; PWR_SW1; PWR_SW2; VREF = VOUT_2 / 2; LDO3; LDO1; LDO6; LDO2; LDO5; INTLDO; PWR MUX; vin_max; LDO4; Logic / Control; NVM

## TSX-3225 24.0000MF10Z-C3
designator X?
CRYSTAL 24.00 MHZ 18PFSMD; Manufacturer 1: Epson; Manufacturer Part Number 1: TSX-322524.0000MF10Z-C3; Frequency: 24MHz; Tolerance: 10ppm; Load Capacitance: 18pF; ESR (Equivalent Series Resistance): 40R; Drive Level: 200uW; Supplier 1: Mouser; RoHS: Yes; Category: Crystals; Pricing 1: 1=0.39000, 10=0.31300, 50=0.31300, 100=0.25200, 1000=0.25200, 10000=0.25200 (USD); Mount: Surface Mount; Case/Package: SMD/SMT; Weight: 0.000564oz; Min Operating Temperature: -20°C; Max Operating Temperature: 75°C; Packaging: Tape and Reel; Package Quantity: 250; Termination: SMD/SMT; Frequency Stability: 10ppm; Frequency Tolerance: 10ppm; Series: TSX-3225; Length: 0.126inch; Width: 2.5mm; Height: 0.024inch; Lead Free: Lead Free; RoHS Compliant: Yes; ComponentLink1URL: https://datasheet.ciiva.com/4946/fa-238-238v-tsx-3225-e09x-4946452.pdf?src-supplier=Mouser; ComponentLink1Description: https://datasheet.ciiva.com/4946/fa-238-238v-tsx-3225-e09x-4946452.pdf?src-supplier=Mouser; Supplier 2: Digi-Key; Supplier Part Number 1: 732-322524MF10Z-C3; Supplier Part Number 2: SER4373DKR-ND
pins: 1, 2 # (power), 3, 4 #